# Altium footprint library Diod.PcbLib: 392 footprints (part 10 of 25)
Each footprint in its own frame and in the unit in brackets; x right, y up, seen from the top. Pads: shape width x height; smd on the part's side, far side on the other; paste and mask are expansions set on the pad; w line width, h text height; cw(c..) or ccw(c..) is an arc to the next point about the centre after c.
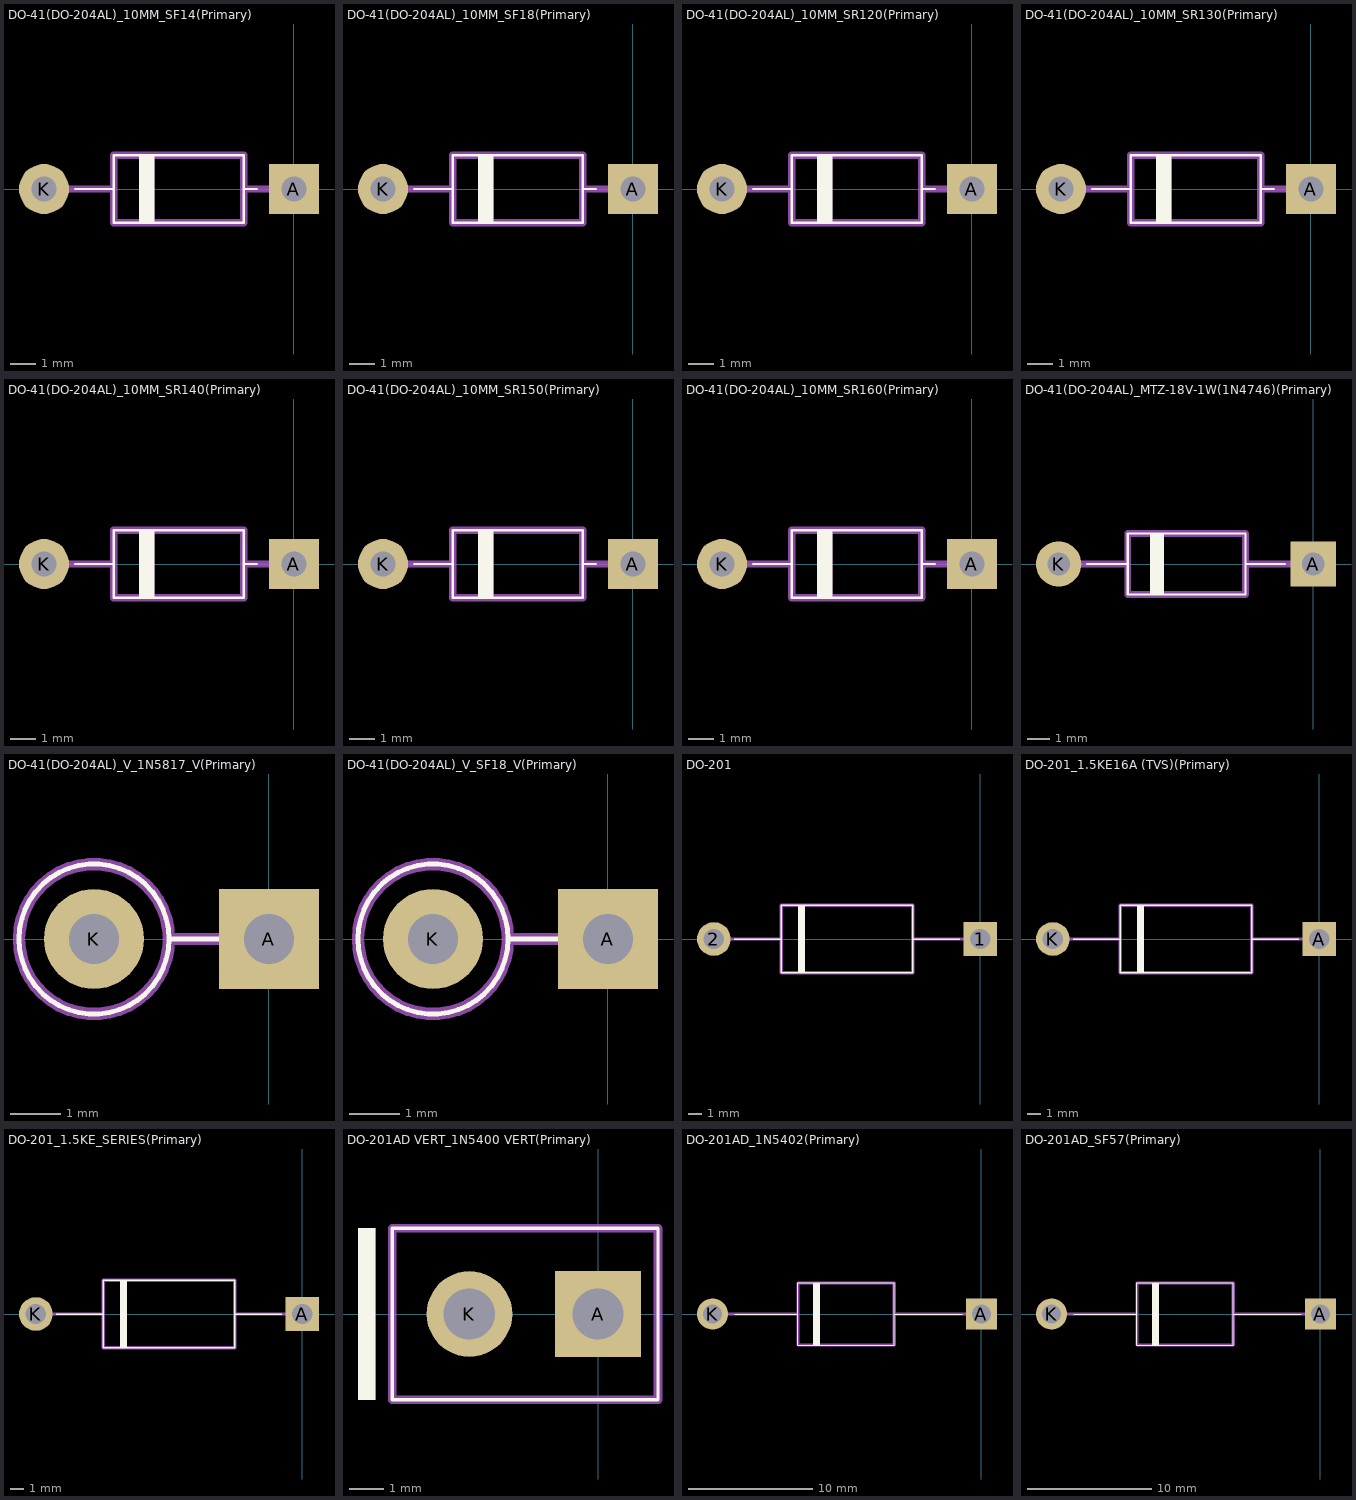
[diagram p9: the footprints below, top view; thin cyan lines are the x and y axes]

## DO-41(DO-204AL)_10MM_SF14(Primary) [mm]
pads (2):
  rect 2x2 hole 1: A(0,0)
  round 2 hole 1: K(-10,0)
Top Overlay:
  region: -6.2,-1.35 -5.6,-1.35 -5.6,1.35 -6.2,1.35
  lines w0.1: -8.75,0 -7.2,0 ; -1.5,0 -2,0 ; -7.2,0 -7.2,1.35 -2,1.35 -2,0 ; -7.2,0 -7.2,-1.35 -2,-1.35 -2,0
Mechanical 1:
  region: -6.2,-1.35 -5.6,-1.35 -5.6,1.35 -6.2,1.35
  lines w0.3: -10,0 -7.2,0 ; 0,0 -2,0 ; -7.2,0 -7.2,1.35 -2,1.35 -2,0 ; -7.2,0 -7.2,-1.35 -2,-1.35 -2,0

## DO-41(DO-204AL)_10MM_SF18(Primary) [mm]
pads (2):
  rect 2x2 hole 1: A(0,0)
  round 2 hole 1: K(-10,0)
Top Overlay:
  region: -6.2,-1.35 -5.6,-1.35 -5.6,1.35 -6.2,1.35
  lines w0.1: -8.75,0 -7.2,0 ; -1.5,0 -2,0 ; -7.2,0 -7.2,1.35 -2,1.35 -2,0 ; -7.2,0 -7.2,-1.35 -2,-1.35 -2,0
Mechanical 1:
  region: -6.2,-1.35 -5.6,-1.35 -5.6,1.35 -6.2,1.35
  lines w0.3: -10,0 -7.2,0 ; 0,0 -2,0 ; -7.2,0 -7.2,1.35 -2,1.35 -2,0 ; -7.2,0 -7.2,-1.35 -2,-1.35 -2,0

## DO-41(DO-204AL)_10MM_SR120(Primary) [mm]
pads (2):
  rect 2x2 hole 1: A(0,0)
  round 2 hole 1: K(-10,0)
Top Overlay:
  region: -6.2,-1.35 -5.6,-1.35 -5.6,1.35 -6.2,1.35
  lines w0.1: -8.75,0 -7.2,0 ; -1.5,0 -2,0 ; -7.2,0 -7.2,1.35 -2,1.35 -2,0 ; -7.2,0 -7.2,-1.35 -2,-1.35 -2,0
Mechanical 1:
  region: -6.2,-1.35 -5.6,-1.35 -5.6,1.35 -6.2,1.35
  lines w0.3: -10,0 -7.2,0 ; 0,0 -2,0 ; -7.2,0 -7.2,1.35 -2,1.35 -2,0 ; -7.2,0 -7.2,-1.35 -2,-1.35 -2,0

## DO-41(DO-204AL)_10MM_SR130(Primary) [mm]
pads (2):
  rect 2x2 hole 1: A(0,0)
  round 2 hole 1: K(-10,0)
Top Overlay:
  region: -6.2,-1.35 -5.6,-1.35 -5.6,1.35 -6.2,1.35
  lines w0.1: -8.75,0 -7.2,0 ; -1.5,0 -2,0 ; -7.2,0 -7.2,1.35 -2,1.35 -2,0 ; -7.2,0 -7.2,-1.35 -2,-1.35 -2,0
Mechanical 1:
  region: -6.2,-1.35 -5.6,-1.35 -5.6,1.35 -6.2,1.35
  lines w0.3: -10,0 -7.2,0 ; 0,0 -2,0 ; -7.2,0 -7.2,1.35 -2,1.35 -2,0 ; -7.2,0 -7.2,-1.35 -2,-1.35 -2,0

## DO-41(DO-204AL)_10MM_SR140(Primary) [mm]
pads (2):
  rect 2x2 hole 1: A(0,0)
  round 2 hole 1: K(-10,0)
Top Overlay:
  region: -6.2,-1.35 -5.6,-1.35 -5.6,1.35 -6.2,1.35
  lines w0.1: -8.75,0 -7.2,0 ; -1.5,0 -2,0 ; -7.2,0 -7.2,1.35 -2,1.35 -2,0 ; -7.2,0 -7.2,-1.35 -2,-1.35 -2,0
Mechanical 1:
  region: -6.2,-1.35 -5.6,-1.35 -5.6,1.35 -6.2,1.35
  lines w0.3: -10,0 -7.2,0 ; 0,0 -2,0 ; -7.2,0 -7.2,1.35 -2,1.35 -2,0 ; -7.2,0 -7.2,-1.35 -2,-1.35 -2,0

## DO-41(DO-204AL)_10MM_SR150(Primary) [mm]
pads (2):
  rect 2x2 hole 1: A(0,0)
  round 2 hole 1: K(-10,0)
Top Overlay:
  region: -6.2,-1.35 -5.6,-1.35 -5.6,1.35 -6.2,1.35
  lines w0.1: -8.75,0 -7.2,0 ; -1.5,0 -2,0 ; -7.2,0 -7.2,1.35 -2,1.35 -2,0 ; -7.2,0 -7.2,-1.35 -2,-1.35 -2,0
Mechanical 1:
  region: -6.2,-1.35 -5.6,-1.35 -5.6,1.35 -6.2,1.35
  lines w0.3: -10,0 -7.2,0 ; 0,0 -2,0 ; -7.2,0 -7.2,1.35 -2,1.35 -2,0 ; -7.2,0 -7.2,-1.35 -2,-1.35 -2,0

## DO-41(DO-204AL)_10MM_SR160(Primary) [mm]
pads (2):
  rect 2x2 hole 1: A(0,0)
  round 2 hole 1: K(-10,0)
Top Overlay:
  region: -6.2,-1.35 -5.6,-1.35 -5.6,1.35 -6.2,1.35
  lines w0.1: -8.75,0 -7.2,0 ; -1.5,0 -2,0 ; -7.2,0 -7.2,1.35 -2,1.35 -2,0 ; -7.2,0 -7.2,-1.35 -2,-1.35 -2,0
Mechanical 1:
  region: -6.2,-1.35 -5.6,-1.35 -5.6,1.35 -6.2,1.35
  lines w0.3: -10,0 -7.2,0 ; 0,0 -2,0 ; -7.2,0 -7.2,1.35 -2,1.35 -2,0 ; -7.2,0 -7.2,-1.35 -2,-1.35 -2,0

## DO-41(DO-204AL)_MTZ-18V-1W(1N4746)(Primary) [mm]
pads (2):
  rect 2x2 hole 1: A(0,0)
  round 2 hole 1: K(-11.25,0)
Top Overlay:
  region: -7.2,-1.35 -6.6,-1.35 -6.6,1.35 -7.2,1.35
  lines w0.1: -10,0 -8.2,0 ; -1.25,0 -3,0 ; -8.2,0 -8.2,1.35 -3,1.35 -3,0 ; -8.2,0 -8.2,-1.35 -3,-1.35 -3,0
Mechanical 1:
  region: -7.2,-1.35 -6.6,-1.35 -6.6,1.35 -7.2,1.35
  lines w0.3: -11.25,0 -8.2,0 ; 0,0 -3,0 ; -8.2,0 -8.2,1.35 -3,1.35 -3,0 ; -8.2,0 -8.2,-1.35 -3,-1.35 -3,0

## DO-41(DO-204AL)_V_1N5817_V(Primary) [mm]
pads (2):
  rect 2x2 hole 1: A(0,0)
  round 2 hole 1: K(-3.5,0)
Top Overlay:
  lines w0.1: -0.7,0 -2,0 ; -2,0 cw(c-3.5,0) -5,0 cw(c-3.5,0) -2,0
Mechanical 1:
  lines w0.25: -0.75,0 -2,0 ; -2,0 ccw(c-3.5,0) -5,0 ccw(c-3.5,0) -2,0

## DO-41(DO-204AL)_V_SF18_V(Primary) [mm]
pads (2):
  rect 2x2 hole 1: A(0,0)
  round 2 hole 1: K(-3.5,0)
Top Overlay:
  lines w0.1: -0.7,0 -2,0 ; -2,0 cw(c-3.5,0) -5,0 cw(c-3.5,0) -2,0
Mechanical 1:
  lines w0.25: -0.75,0 -2,0 ; -2,0 ccw(c-3.5,0) -5,0 ccw(c-3.5,0) -2,0

## DO-201 [mm]
pads (2):
  rect 2.5x2.5 hole 1.5: 1(0,0)
  round 2.5 hole 1.5: 2(-19.75,0)
Top Overlay:
  region: -13.5,2.5 -13.5,-2.5 -13,-2.5 -13,2.5
  lines w0.1: -18.25,0 -14.75,0 ; -5,0 -1.5,0 ; -14.75,0 -14.75,2.5 -5,2.5 -5,-2.5 -14.75,-2.5 -14.75,0
Mechanical 1:
  region: -13.5,2.5 -13.5,-2.5 -13,-2.5 -13,2.5
  lines w0.25: -19.75,0 -14.75,0 ; -5,0 0,0 ; -14.75,0 -14.75,2.5 -5,2.5 -5,-2.5 -14.75,-2.5 -14.75,0

## DO-201_1.5KE16A (TVS)(Primary) [mm]
pads (2):
  rect 2.5x2.5 hole 1.5: A(0,0)
  round 2.5 hole 1.5: K(-19.75,0)
Top Overlay:
  region: -13.5,2.5 -13.5,-2.5 -13,-2.5 -13,2.5
  lines w0.1: -18.25,0 -14.75,0 ; -5,0 -1.5,0 ; -14.75,0 -14.75,2.5 -5,2.5 -5,-2.5 -14.75,-2.5 -14.75,0
Mechanical 1:
  region: -13.5,2.5 -13.5,-2.5 -13,-2.5 -13,2.5
  lines w0.25: -19.75,0 -14.75,0 ; -5,0 0,0 ; -14.75,0 -14.75,2.5 -5,2.5 -5,-2.5 -14.75,-2.5 -14.75,0

## DO-201_1.5KE_SERIES(Primary) [mm]
pads (2):
  rect 2.5x2.5 hole 1.5: A(0,0)
  round 2.5 hole 1.5: K(-19.75,0)
Top Overlay:
  region: -13.5,2.5 -13.5,-2.5 -13,-2.5 -13,2.5
  lines w0.1: -18.25,0 -14.75,0 ; -5,0 -1.5,0 ; -14.75,0 -14.75,2.5 -5,2.5 -5,-2.5 -14.75,-2.5 -14.75,0
Mechanical 1:
  region: -13.5,2.5 -13.5,-2.5 -13,-2.5 -13,2.5
  lines w0.25: -19.75,0 -14.75,0 ; -5,0 0,0 ; -14.75,0 -14.75,2.5 -5,2.5 -5,-2.5 -14.75,-2.5 -14.75,0

## DO-201AD VERT_1N5400 VERT(Primary) [mm]
pads (2):
  rect 2.5x2.5 hole 1.5: A(0,0)
  round 2.5 hole 1.5: K(-3.75,0)
Top Overlay:
  region: -7,2.5 -7,-2.5 -6.5,-2.5 -6.5,2.5
  lines w0.1: -6,-2.5 1.75,-2.5 1.75,2.5 -6,2.5 -6,0 -6,-2.5
Mechanical 1:
  region: -7,2.5 -7,-2.5 -6.5,-2.5 -6.5,2.5
  lines w0.25: -6,-2.5 1.75,-2.5 1.75,2.5 -6,2.5 -6,0 -6,-2.5

## DO-201AD_1N5402(Primary) [mm]
pads (2):
  rect 2.5x2.5 hole 1.5: A(0,0)
  round 2.5 hole 1.5: K(-21.6,0)
Top Overlay:
  region: -13.5,2.5 -13.5,-2.5 -13,-2.5 -13,2.5
  lines w0.1: -19.812,0 -14.75,0 ; -7,0 -1.524,0 ; -14.75,0 -14.75,2.5 -7,2.5 -7,-2.5 -14.75,-2.5 -14.75,0
Mechanical 1:
  region: -13.5,2.5 -13.5,-2.5 -13,-2.5 -13,2.5
  lines w0.25: -21.6,0 -14.75,0 ; -7,0 0,0 ; -14.75,0 -14.75,2.5 -7,2.5 -7,-2.5 -14.75,-2.5 -14.75,0

## DO-201AD_SF57(Primary) [mm]
pads (2):
  rect 2.5x2.5 hole 1.5: A(0,0)
  round 2.5 hole 1.5: K(-21.6,0)
Top Overlay:
  region: -13.5,2.5 -13.5,-2.5 -13,-2.5 -13,2.5
  lines w0.1: -19.812,0 -14.75,0 ; -7,0 -1.524,0 ; -14.75,0 -14.75,2.5 -7,2.5 -7,-2.5 -14.75,-2.5 -14.75,0
Mechanical 1:
  region: -13.5,2.5 -13.5,-2.5 -13,-2.5 -13,2.5
  lines w0.25: -21.6,0 -14.75,0 ; -7,0 0,0 ; -14.75,0 -14.75,2.5 -7,2.5 -7,-2.5 -14.75,-2.5 -14.75,0